# Altium integrated library PEC16-4015F-S0024.IntLib: 1 symbol
Pins are listed as number, name and electrical type; pins without a type are passive.

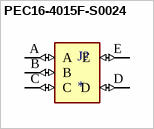
[diagram p0: symbol PEC16-4015F-S0024]

## PEC16-4015F-S0024
designator J?
Mechanical Encoder Rotary Incremental Flat 0.02N.m Straight Quadrature Digital Square Wave 24PPR Through Hole PC Pin; MP: PEC16-4015F-S0024; MF: Bourns; Availability: In Stock; Package: None; Value: *; SnapEDA_Link: https://www.snapeda.com/parts/PEC16-4015F-S0024/Bourns/view-part/?ref=snap; Price: None; Purchase-URL: https://pricing.snapeda.com/search/part/PEC16-4015F-S0024/?ref=eda; Check_prices: https://www.snapeda.com/parts/PEC16-4015F-S0024/Bourns/view-part/?ref=eda
footprint PEC16-4015F-S0024
pins: A (io), B (io), C (io), D (io), E (io)